# EAGLE library part FH36W-61S-0.3SHW(50) (library con-hirose-fh36-series)
HIROSE FH36 SERIES CATALOG <https://www.hirose.com/en/product/document?clcode=CL0580-1620-0-50&productname=FH36W-39S-0.3SHW(50)&series=FH36&documenttype=Catalog&lang=en&documentid=D49359_en> HIROSE FH36 PRODUCT PAGE <https://www.hirose.com/product/p/CL0580-1620-0-50#documentSection>
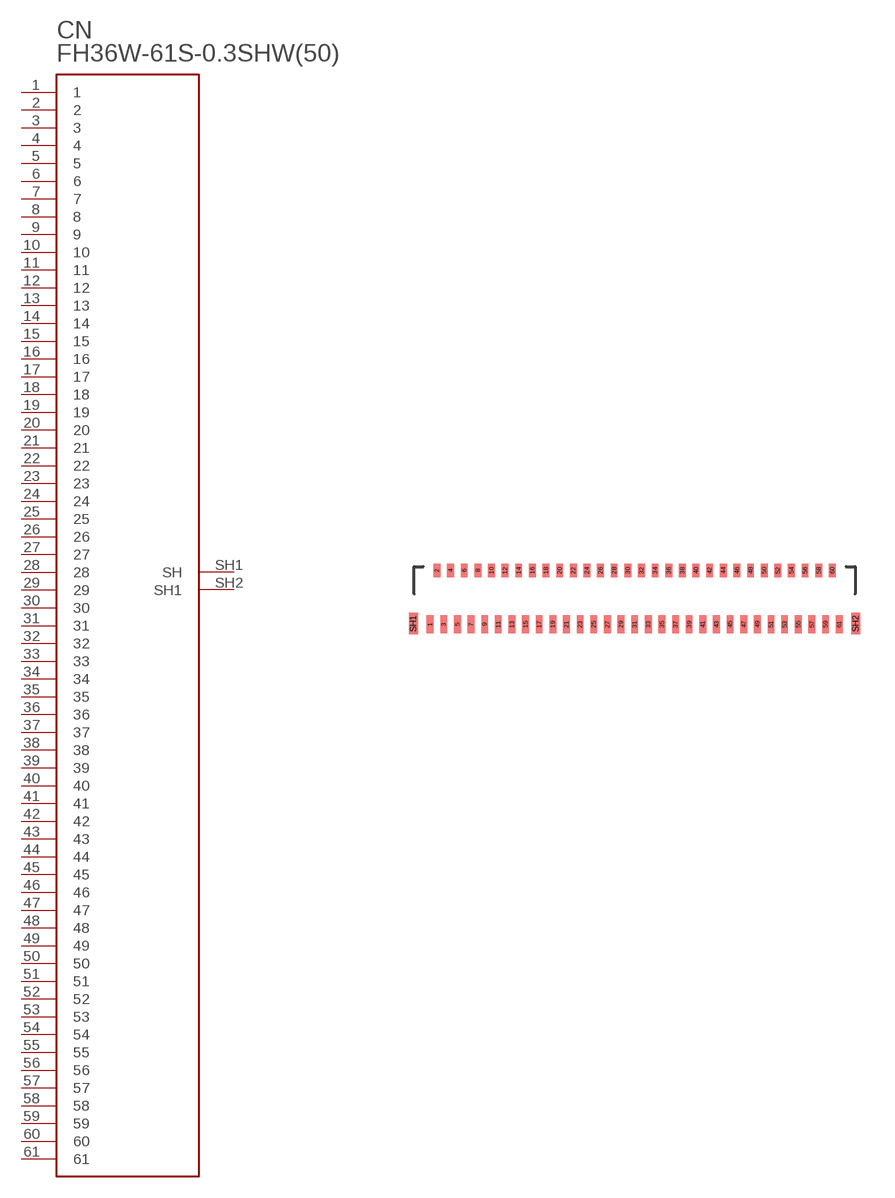
[diagram p10: symbol with the pads of FH36(W)-61; footprint FH36(W)-61]

Designator prefix CN

## FH36W-61S-0.3SHW(50)  [FH36(W)-61]
1  1
2  2
3  3
4  4
5  5
6  6
7  7
8  8
9  9
10  10
11  11
12  12
13  13
14  14
15  15
16  16
17  17
18  18
19  19
20  20
21  21
22  22
23  23
24  24
25  25
26  26
27  27
28  28
29  29
30  30
31  31
32  32
33  33
34  34
35  35
36  36
37  37
38  38
39  39
40  40
41  41
42  42
43  43
44  44
45  45
46  46
47  47
48  48
49  49
50  50
51  51
52  52
53  53
54  54
55  55
56  56
57  57
58  58
59  59
60  60
61  61
SH1  SH
SH2  SH1

## Footprint FH36(W)-61 (pad centres in mm)
smd 0.3 x 0.8: 1 -9,-1.235; 3 -8.4,-1.235; 5 -7.8,-1.235; 7 -7.2,-1.235; 9 -6.6,-1.235; 11 -6,-1.235; 13 -5.4,-1.235; 15 -4.8,-1.235; 17 -4.2,-1.235; 19 -3.6,-1.235; 21 -3,-1.235; 23 -2.4,-1.235; 25 -1.8,-1.235; 27 -1.2,-1.235; 29 -0.6,-1.235; 31 0,-1.235; 33 0.6,-1.235; 35 1.2,-1.235; 37 1.8,-1.235; 39 2.4,-1.235; 41 3,-1.235; 43 3.6,-1.235; 45 4.2,-1.235; 47 4.8,-1.235; 49 5.4,-1.235; 51 6,-1.235; 53 6.6,-1.235; 55 7.2,-1.235; 57 7.8,-1.235; 59 8.4,-1.235; 61 9,-1.235
smd 0.3 x 0.6: 2 -8.7,1.135; 4 -8.1,1.135; 6 -7.5,1.135; 8 -6.9,1.135; 10 -6.3,1.135; 12 -5.7,1.135; 14 -5.1,1.135; 16 -4.5,1.135; 18 -3.9,1.135; 20 -3.3,1.135; 22 -2.7,1.135; 24 -2.1,1.135; 26 -1.5,1.135; 28 -0.9,1.135; 30 -0.3,1.135; 32 0.3,1.135; 34 0.9,1.135; 36 1.5,1.135; 38 2.1,1.135; 40 2.7,1.135; 42 3.3,1.135; 44 3.9,1.135; 46 4.5,1.135; 48 5.1,1.135; 50 5.7,1.135; 52 6.3,1.135; 54 6.9,1.135; 56 7.5,1.135; 58 8.1,1.135; 60 8.7,1.135
smd 0.4 x 0.95: SH1 -9.735,-1.2; SH2 9.735,-1.2